# Altium footprint library axsem_sheets_v1-1.PCBLIB: 1 footprints
Each footprint in its own frame and in the unit in brackets; x right, y up, seen from the top. Pads: shape width x height; smd on the part's side, far side on the other; paste and mask are expansions set on the pad; w line width, h text height; cw(c..) or ccw(c..) is an arc to the next point about the centre after c.

## FRAME1 [mm]
Mechanical 16:
  text ">REV" at 0,-2.54 h1.97